# Altium footprint library SOT23-5_SC74A_SOT753_M.PcbLib: 1 footprints
Each footprint in its own frame and in the unit in brackets; x right, y up, seen from the top. Pads: shape width x height; smd on the part's side, far side on the other; paste and mask are expansions set on the pad; w line width, h text height; cw(c..) or ccw(c..) is an arc to the next point about the centre after c.
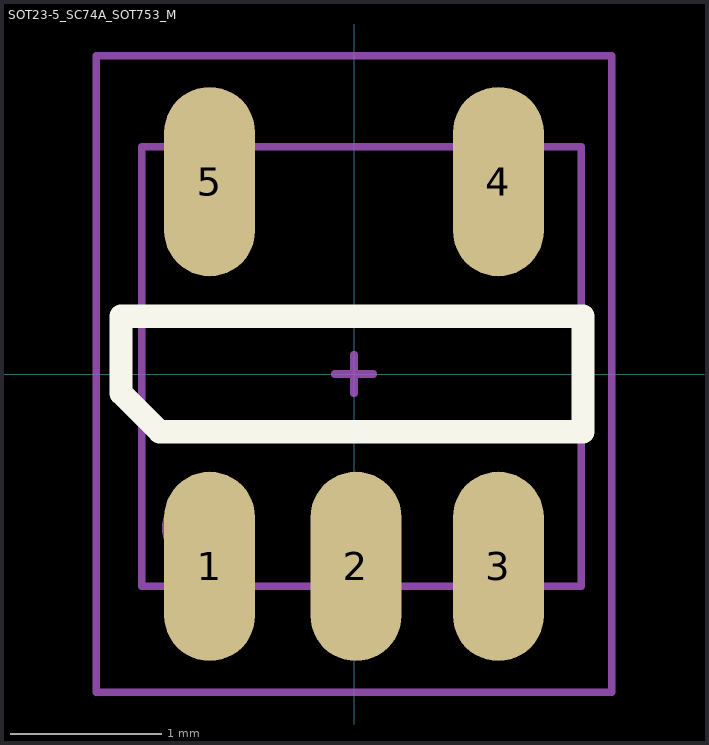
[diagram p0: the footprint, top view; thin cyan lines are the x and y axes]

## SOT23-5_SC74A_SOT753_M [mm]
pads (5):
  oval 0.6x1.25 smd paste+0 mask+0.05: 1(-0.953,-1.27) 2(0.013,-1.27) 3(0.953,-1.27) 4(0.953,1.27) 5(-0.953,1.27)
Top Overlay:
  lines w0.152: -1.537,-0.127 -1.283,-0.381 1.511,-0.381 1.511,0.381 -1.537,0.381 -1.537,-0.127
Top Assembly:
  circle w0.3: c-1.016,-1.016 r0.1
  lines w0.05: -1.4,-1.4 -1.4,1.5 1.5,1.5 1.5,-1.4 -1.4,-1.4
Top Courtyard:
  lines w0.05: -0.127,0 0.127,0 ; 0,-0.127 0,0.127 ; -1.7,-2.1 -1.7,2.1 1.7,2.1 1.7,-2.1 -1.7,-2.1
3D body "User Library-SOT23-5-2.step": height 1.45, standoff 0, extent -1.412,-1.349 1.488,1.451